# EAGLE library part MP6-OEM (library talons-actuation)
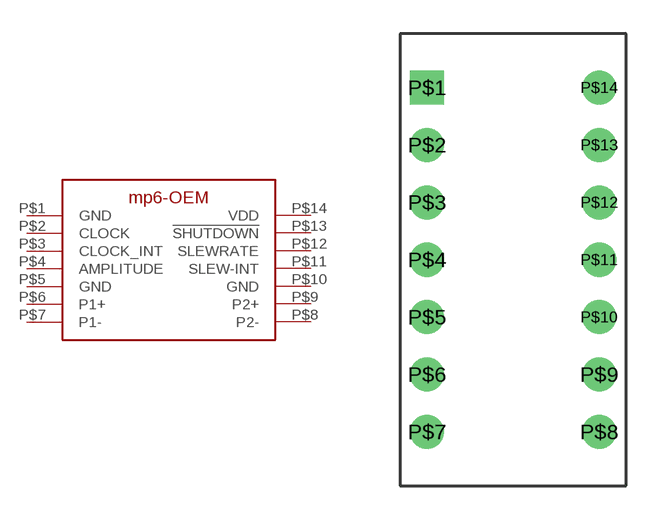
[diagram p2: symbol with the pads of DIL-14; footprint DIL-14]

Designator prefix -

## MP6-OEM  [DIL-14]
P$1  GND  pwr
P$2  CLOCK
P$3  CLOCK_INT
P$4  AMPLITUDE
P$5  GND  pwr
P$6  P1+
P$7  P1-
P$8  P2-
P$9  P2+
P$10  GND  pwr
P$11  SLEW-INT
P$12  SLEWRATE
P$13  !SHUTDOWN
P$14  VDD  pwr

## Footprint DIL-14 (pad centres in mm)
drill 1 square: P$1 -3.81,7.62
drill 1: P$2 -3.81,5.08; P$3 -3.81,2.54; P$4 -3.81,0; P$5 -3.81,-2.54; P$6 -3.81,-5.08; P$7 -3.81,-7.62; P$8 3.81,-7.62; P$9 3.81,-5.08; P$10 3.81,-2.54; P$11 3.81,0; P$12 3.81,2.54; P$13 3.81,5.08; P$14 3.81,7.62